# Altium footprint library PartSpecificFootprints.PcbLib: 4 footprints
Each footprint in its own frame and in the unit in brackets; x right, y up, seen from the top. Pads: shape width x height; smd on the part's side, far side on the other; paste and mask are expansions set on the pad; w line width, h text height; cw(c..) or ccw(c..) is an arc to the next point about the centre after c.
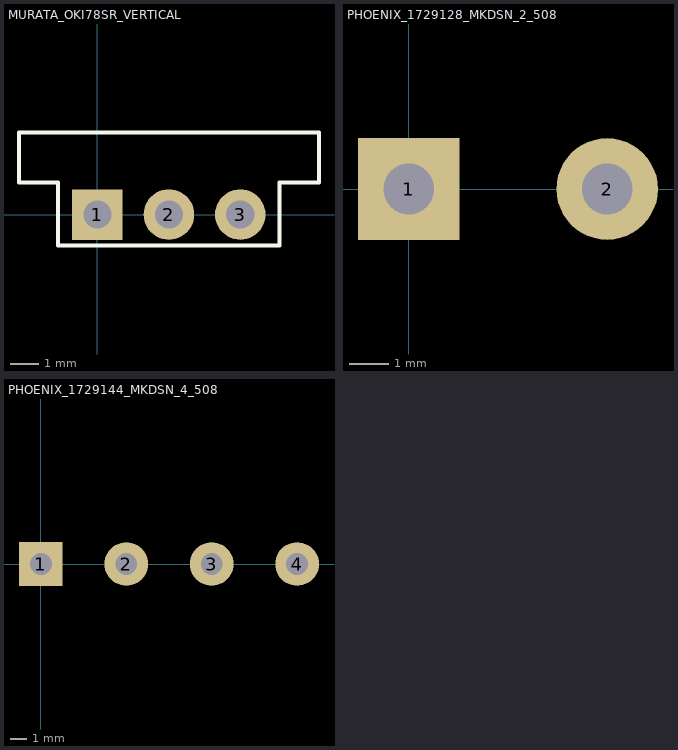
[diagram p0: the footprints below, top view; thin cyan lines are the x and y axes]

## MURATA_OKI78SR_VERTICAL [mm] "OKI-78SR vertical; KiCad pad layout and embedded KiCad STEP; verify registration before manufacture"
height 16.5
pads (3):
  rect 1.8x1.8 hole 1: 1(0,0)
  round 1.8 hole 1: 2(2.54,0) 3(5.08,0)
Top Overlay:
  lines w0.15: -2.79,1.14 -2.79,2.92 7.88,2.92 7.88,1.14 6.48,1.14 6.48,-1.1 -1.4,-1.1 -1.4,1.14 -2.79,1.14
3D body "oki78sr.step": height 16.52, standoff -3.31, extent -2.667,-3.329 7.747,5.271

## PCBComponent_1 [mm]

## PHOENIX_1729128_MKDSN_2_508 [mm] "MKDSN 1.5; 5.08mm pitch, 1.3mm drill, authored pads; detailed body STEP not available"
height 10
pads (2):
  rect 2.6x2.6 hole 1.3: 1(0,0)
  round 2.6 hole 1.3: 2(5.08,0)

## PHOENIX_1729144_MKDSN_4_508 [mm] "MKDSN 1.5; 5.08mm pitch, 1.3mm drill, authored pads; detailed body STEP not available"
height 10
pads (4):
  rect 2.6x2.6 hole 1.3: 1(0,0)
  round 2.6 hole 1.3: 2(5.08,0) 3(10.16,0) 4(15.24,0)